# Altium schematic symbol library Connectors_PLUS_headers.SchLib: 22 symbols
Pins are listed as number, name and electrical type; pins without a type are passive.

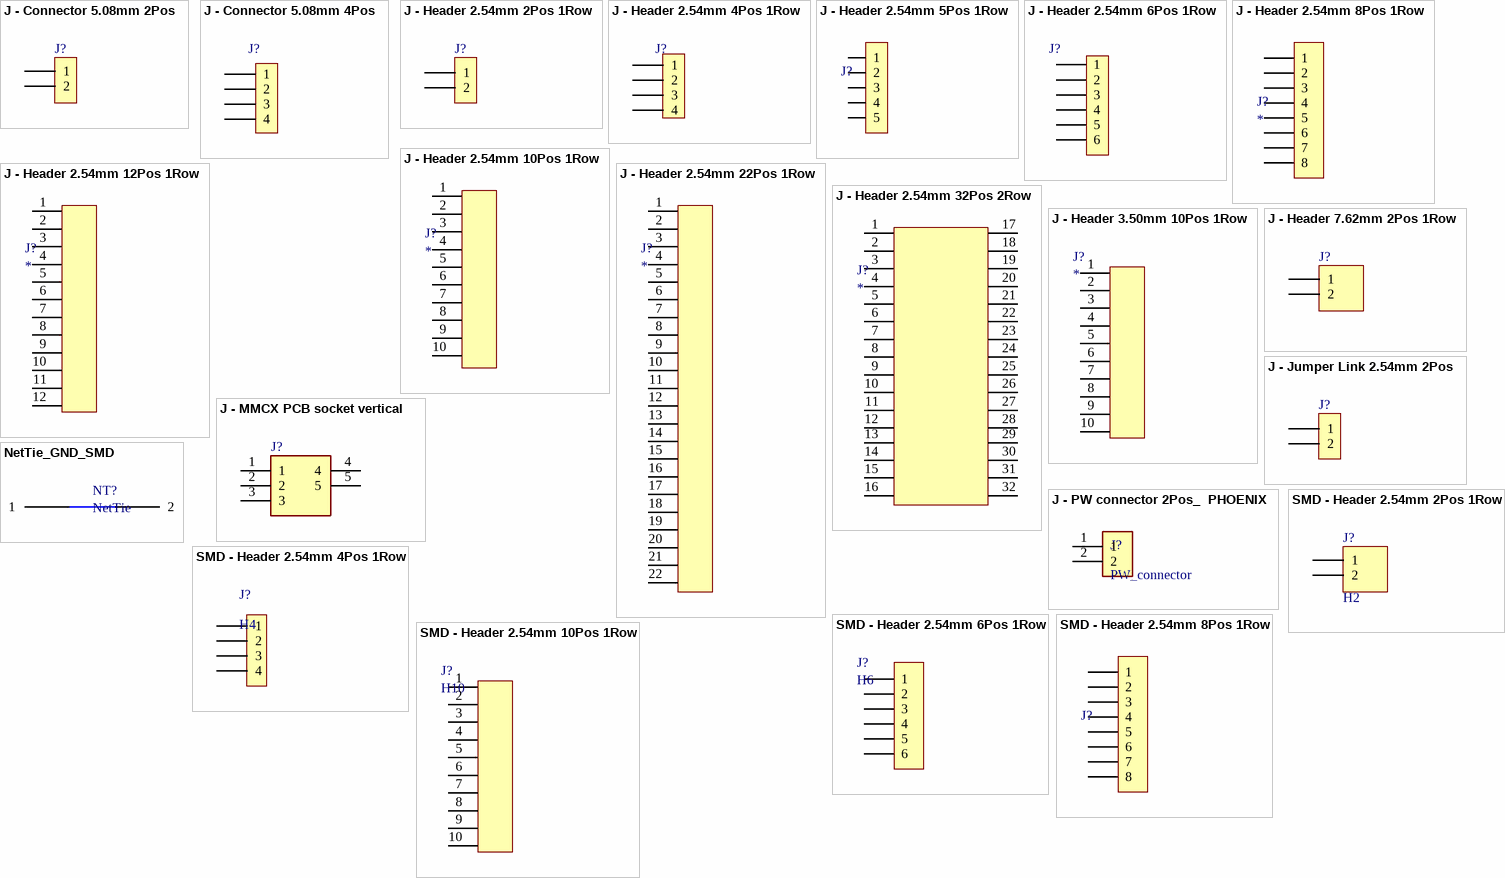
[diagram p0: symbols J - Connector 5.08mm 2Pos to SMD - Header 2.54mm 10Pos 1Row]

## J - Connector 5.08mm 2Pos
designator J?  (value not drawn)
footprint CONNECTOR 508mm 2POS
pins: 1, 2

## J - Connector 5.08mm 4Pos
designator J?  (value not drawn)
footprint CONNECTOR 508mm 4POS
pins: 1, 2, 3, 4

## J - Header 2.54mm 2Pos 1Row
designator J?  (value not drawn)
LatestRevisionDate: 17-Jul-2002; LatestRevisionNote: Re-released for DXP Platform.; Publisher: Altium Limited
footprint Header 2.54mm 2Pos 1Row
pins: 1, 2

## J - Header 2.54mm 4Pos 1Row
designator J?  (value not drawn)
footprint Header 2.54mm 4Pos 1Row
pins: 1, 2, 3, 4

## J - Header 2.54mm 5Pos 1Row
designator J?  (value not drawn)
footprint Header 2.54mm 5Pos 1Row
pins: 1, 2, 3, 4, 5

## J - Header 2.54mm 6Pos 1Row
designator J?  (value not drawn)
footprint Header 2.54mm 6Pos 1Row
pins: 1, 2, 3, 4, 5, 6

## J - Header 2.54mm 8Pos 1Row
designator J?
footprint Header 2.54mm 8Pos 1Row
pins: 1, 2, 3, 4, 5, 6, 7, 8

## J - Header 2.54mm 10Pos 1Row
designator J?
footprint Header 2.54mm 10Pos 1Row
pins: 1, 2, 3, 4, 5, 6, 7, 8, 9, 10

## J - Header 2.54mm 12Pos 1Row
designator J?
footprint Header 2.54mm 12Pos 1Row
pins: 1, 2, 3, 4, 5, 6, 7, 8, 9, 10, 11, 12

## J - Header 2.54mm 22Pos 1Row
designator J?
footprint Header 2.54mm 22Pos 1Row
pins: 1, 2, 3, 4, 5, 6, 7, 8, 9, 10, 11, 12, 13, 14, 15, 16, 17, 18, 19, 20, 21, 22

## J - Header 2.54mm 32Pos 2Row
designator J?
footprint Header 2.54mm 32Pos 2Row
pins: 1, 2, 3, 4, 5, 6, 7, 8, 9, 10, 11, 12, 13, 14, 15, 16, 17, 18, 19, 20, 21, 22, 23, 24, 25, 26, 27, 28, 29, 30, 31, 32

## J - Header 3.50mm 10Pos 1Row
designator J?
footprint Header 3.5mm 10Pos 1Row
pins: 1, 2, 3, 4, 5, 6, 7, 8, 9, 10

## J - Header 7.62mm 2Pos 1Row
designator J?
LatestRevisionDate: 17-Jul-2002; LatestRevisionNote: Re-released for DXP Platform.; Publisher: Altium Limited
footprint Header 7.62mm 2Pos 1Row
pins: 1, 2

## J - Jumper Link 2.54mm 2Pos
designator J?  (value not drawn)
LatestRevisionDate: 17-Jul-2002; LatestRevisionNote: Re-released for DXP Platform.; Publisher: Altium Limited
footprint Jumper Link 2.54mm
pins: 1, 2

## J - MMCX PCB socket vertical
designator J?
Connector
footprint 73415-2063 - MOLEX - MMCX vertical PCB (MMCX vertical PCB connector)
pins: 1, 2, 3, 4, 5

## J - PW connector 2Pos_  PHOENIX
designator J?, comment PW_connector
2 Position Terminal Block Header, Male Pins, Shrouded _4 Side_ 0.200 _5.08mm_ Vertical Through Hole; MP: 1755736; MF: Phoenix Contact; Price: None; Availability: Unavailable; Package: DO-214 Phoenix Contact; SnapEDA_Link: https://www.snapeda.com/parts/1755736/Phoenix%20Contact/view-part/75195/?ref=snap; Value: *
footprint PHOENIX_1755736
pins: 1, 2

## NetTie_GND_SMD
designator NT?, comment NetTie  (net tie, no BOM)
Net Tie for GND SMD
footprint GND_NetTie_SMD
pins: 1, 2

## SMD - Header 2.54mm 2Pos 1Row
designator J?, comment H2
Samtec 2.54mm Single Row Vertical Surface Mount Header 2 POS; LatestRevisionDate: 17-Jul-2002; LatestRevisionNote: Re-released for DXP Platform.; Publisher: Altium Limited
footprint SMD-Vertical-Header-2POS_Footprint
pins: 1, 2

## SMD - Header 2.54mm 4Pos 1Row
designator J?, comment H4
Samtec 2.54mm Single Row Vertical Surface Mount Header 4 POS
footprint SMD-Vertical-Header-4POS_1row (2.54mm)
pins: 1, 2, 3, 4

## SMD - Header 2.54mm 6Pos 1Row
designator J?, comment H6
Samtec 2.54mm Single Row Vertical Surface Mount Header 6 POS
footprint SMD-Vertical-Header-6POS_1row (2.54)
pins: 1, 2, 3, 4, 5, 6

## SMD - Header 2.54mm 8Pos 1Row
designator J?, comment H8  (value not drawn)
Samtec 2.54mm Single Row Vertical Surface Mount Header 8 POS
footprint SMD-Vertical-Header-8POS_Footprint
pins: 1, 2, 3, 4, 5, 6, 7, 8

## SMD - Header 2.54mm 10Pos 1Row
designator J?, comment H10
Samtec 2.54mm Single Row Vertical Surface Mount Header 10 POS
footprint SMD-Vertical-Header-10POS_Footprint
pins: 1, 2, 3, 4, 5, 6, 7, 8, 9, 10